# Altium footprint library typeF2400khz.PcbLib: 1 footprints
Each footprint in its own frame and in the unit in brackets; x right, y up, seen from the top. Pads: shape width x height; smd on the part's side, far side on the other; paste and mask are expansions set on the pad; w line width, h text height; cw(c..) or ccw(c..) is an arc to the next point about the centre after c.
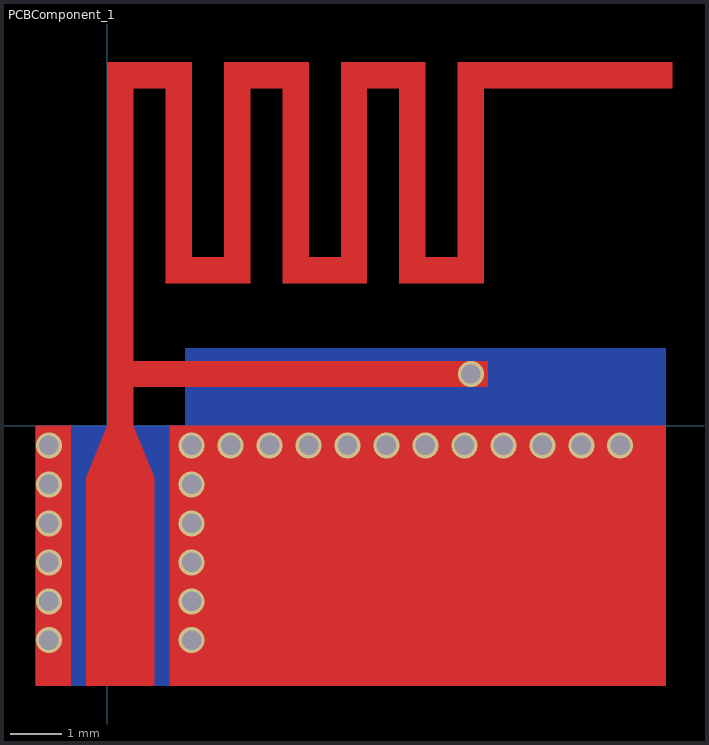
[diagram p0: the footprint, top view; thin cyan lines are the x and y axes]

## PCBComponent_1 [mm]
via -1.143,-0.381 diameter 0.508 hole 0.381
via -1.143,-1.143 diameter 0.508 hole 0.381
via -1.143,-1.905 diameter 0.508 hole 0.381
via -1.143,-2.667 diameter 0.508 hole 0.381
via -1.143,-3.429 diameter 0.508 hole 0.381
via -1.143,-4.191 diameter 0.508 hole 0.381
via 1.651,-4.191 diameter 0.508 hole 0.381
via 1.651,-3.429 diameter 0.508 hole 0.381
via 1.651,-2.667 diameter 0.508 hole 0.381
via 1.651,-1.905 diameter 0.508 hole 0.381
via 1.651,-1.143 diameter 0.508 hole 0.381
via 10.033,-0.381 diameter 0.508 hole 0.381
via 9.271,-0.381 diameter 0.508 hole 0.381
via 8.509,-0.381 diameter 0.508 hole 0.381
via 7.747,-0.381 diameter 0.508 hole 0.381
via 6.985,-0.381 diameter 0.508 hole 0.381
via 6.223,-0.381 diameter 0.508 hole 0.381
via 5.461,-0.381 diameter 0.508 hole 0.381
via 4.699,-0.381 diameter 0.508 hole 0.381
via 3.937,-0.381 diameter 0.508 hole 0.381
via 3.175,-0.381 diameter 0.508 hole 0.381
via 2.413,-0.381 diameter 0.508 hole 0.381
via 1.651,-0.381 diameter 0.508 hole 0.381
via 7.112,1.016 diameter 0.508 hole 0.381
Top Layer:
  region: -1.397,0 -0.711,0 -0.711,-5.08 -1.397,-5.08
  region: 1.219,0 10.922,0 10.922,-5.08 1.219,-5.08
  region: -0.406,-5.08 0.914,-5.08 0.914,-1.016 0.508,0 0.508,0.762 7.442,0.762 7.442,1.27 0.508,1.27 0.508,6.604 1.143,6.604 1.143,2.794 2.794,2.794 2.794,6.604 3.429,6.604 3.429,2.794 5.08,2.794 5.08,6.604 5.715,6.604 5.715,2.794 7.366,2.794 7.366,6.604 11.049,6.604 11.049,7.112 6.858,7.112 6.858,3.302 6.223,3.302 6.223,7.112 4.572,7.112 4.572,3.302 3.937,3.302 3.937,7.112 2.286,7.112 2.286,3.302 1.651,3.302 1.651,7.112 0,7.112 0,0 -0.406,-1.016
Bottom Layer:
  region: -1.397,-5.08 10.922,-5.08 10.922,1.524 1.524,1.524 1.524,0 -1.397,0